# Altium integrated library TPM-SimonK_50A_Library.IntLib: 8 symbols
Pins are listed as number, name and electrical type; pins without a type are passive.

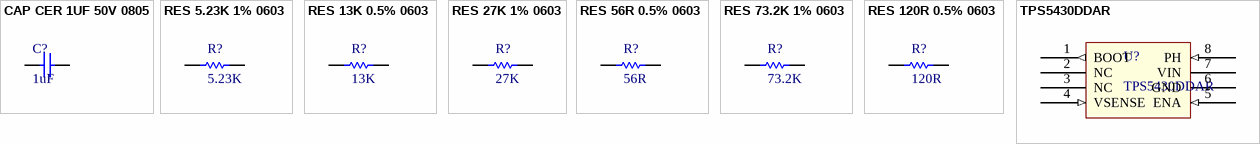
[diagram p0: symbols CAP CER 1UF 50V 0805 to TPS5430DDAR]

## CAP CER 1UF 50V 0805
designator C?, comment 1uF
CAP CER 1UF 50V Y5V 0805; Manufacturer: Yageo; Manufacturer Part Number: CC0805ZKY5V9BB105; Capacitance: 1µF; Tolerance: -20%, +80%; Temperature Coefficient: Y5V (F); Supplier 1: Digi-Key; RoHS: RoHS Compliant; Category: Capacitors; Stock 1: 8830; Pricing 1: 1=0.12, 10=0.081, 25=0.0608, 100=0.0385, 250=0.03244, 500=0.02716, 1000=0.02229 (USD); Packaging: Cut Tape (CT); Part Status: Active; Voltage - Rated: 50V; Operating Temperature: -30°C ~ 85°C; Features: -; Ratings: -; Applications: General Purpose; Failure Rate: -; Mounting Type: Surface Mount, MLCC; Package / Case: 0805 (2012 Metric); Size / Dimension: 0.079" L x 0.049" W (2.00mm x 1.25mm); Height - Seated (Max): -; Thickness (Max): 0.057" (1.45mm); Lead Spacing: -; Lead Style: -; ComponentLink1URL: http://www.yageo.com/documents/recent/UPY-GPHC_Y5V_6.3V-to-50V_6.pdf; ComponentLink1Description: http://www.yageo.com/documents/recent/UPY-GPHC_Y5V_6.3V-to-50V_6.pdf
footprint CAP CER 0805
pins: 1, 2

## RES 5.23K 1% 0603
designator R?, comment 5.23K
RES SMD 5.23K OHM 1% 1/20W 0603; Manufacturer: Yageo; Manufacturer Part Number: RT0201FRE075K23L; Power (Watts): 0.05W, 1/20W; Temperature Coefficient: ±50ppm/°C; Supplier 1: Digi-Key; RoHS: RoHS Compliant; Category: Resistors; Stock 1: 0; Pricing 1: 10000=0.04036 (USD); Packaging: Tape & Reel (TR); Part Status: Active; Resistance (Ohms): 5.23k; Tolerance: ±1%; Composition: Thin Film; Features: Moisture Resistant; Operating Temperature: -55°C ~ 125°C; Package / Case: 0201 (0603 Metric); Supplier Device Package: 0201; Size / Dimension: 0.024" L x 0.012" W (0.60mm x 0.30mm); Height: 0.010" (0.26mm); Number of Terminations: 2; Failure Rate: -; ComponentLink1URL: http://www.yageo.com/documents/recent/PYu-RT_1-to-0.05_RoHS_L_6.pdf; ComponentLink1Description: http://www.yageo.com/documents/recent/PYu-RT_1-to-0.05_RoHS_L_6.pdf
footprint RESISTOR 0603 (RES 5% 0603)
pins: 1, 2

## RES 13K 0.5% 0603
designator R?, comment 13K
Thin Film Resistors - SMD 1/20W 13Kohm 0.5% 25ppm; Manufacturer: Susumu; Manufacturer Part Number: RR0306P-133-D; Power (Watts): 0.05W, 1/20W; Temperature Coefficient: ±25ppm/°C; Supplier 1: Digi-Key; RoHS: RoHS Compliant; Category: Resistors; Stock 1: 0; Pricing 1: 5000=0.02835 (USD); Packaging: Tape & Reel (TR); Part Status: Active; Resistance (Ohms): 13k; Tolerance: ±0.5%; Composition: Thin Film; Features: -; Operating Temperature: -55°C ~ 125°C; Package / Case: 0201 (0603 Metric); Supplier Device Package: -; Size / Dimension: 0.024" L x 0.012" W (0.60mm x 0.30mm); Height: 0.010" (0.26mm); Number of Terminations: 2; Failure Rate: -; ComponentLink1URL: http://www.susumu-usa.com/pdf/RR_Data_Sheet.pdf; ComponentLink1Description: http://www.susumu-usa.com/pdf/RR_Data_Sheet.pdf
footprint RESISTOR 0603 (RES 5% 0603)
pins: 1, 2

## RES 27K 1% 0603
designator R?, comment 27K
RES SMD 27K OHM 1% 1/20W 0603; Manufacturer: Yageo; Manufacturer Part Number: RT0201FRE0727KL; Power (Watts): 0.05W, 1/20W; Temperature Coefficient: ±50ppm/°C; Supplier 1: Digi-Key; RoHS: RoHS Compliant; Category: Resistors; Stock 1: 0; Pricing 1: 10000=0.04036 (USD); Packaging: Tape & Reel (TR); Part Status: Active; Resistance (Ohms): 27k; Tolerance: ±1%; Composition: Thin Film; Features: Moisture Resistant; Operating Temperature: -55°C ~ 125°C; Package / Case: 0201 (0603 Metric); Supplier Device Package: 0201; Size / Dimension: 0.024" L x 0.012" W (0.60mm x 0.30mm); Height: 0.010" (0.26mm); Number of Terminations: 2; Failure Rate: -; ComponentLink1URL: http://www.yageo.com/documents/recent/PYu-RT_1-to-0.05_RoHS_L_6.pdf; ComponentLink1Description: http://www.yageo.com/documents/recent/PYu-RT_1-to-0.05_RoHS_L_6.pdf
footprint RESISTOR 0603 (RES 5% 0603)
pins: 1, 2

## RES 56R 0.5% 0603
designator R?, comment 56R
Thin Film Resistors - SMD 1/20W 56ohm 0.5% 25ppm; Manufacturer: Susumu; Manufacturer Part Number: RR0306P-560-D; Power (Watts): 0.05W, 1/20W; Temperature Coefficient: ±25ppm/°C; Resistance (Ohms): 56; Supplier 1: Digi-Key; RoHS: RoHS Compliant; Category: Resistors; Stock 1: 0; Pricing 1: 5000=0.02835 (USD); Packaging: Tape & Reel (TR); Part Status: Active; Tolerance: ±0.5%; Composition: Thin Film; Features: -; Operating Temperature: -55°C ~ 125°C; Package / Case: 0201 (0603 Metric); Supplier Device Package: -; Size / Dimension: 0.024" L x 0.012" W (0.60mm x 0.30mm); Height: 0.010" (0.26mm); Number of Terminations: 2; Failure Rate: -; ComponentLink1URL: http://www.susumu-usa.com/pdf/RR_Data_Sheet.pdf; ComponentLink1Description: http://www.susumu-usa.com/pdf/RR_Data_Sheet.pdf
footprint RESISTOR 0603 (RES 5% 0603)
pins: 1, 2

## RES 73.2K 1% 0603
designator R?, comment 73.2K
RES SMD 73.2K OHM 1% 1/20W 0603; Manufacturer: Yageo; Manufacturer Part Number: RT0201FRE0773K2L; Power (Watts): 0.05W, 1/20W; Temperature Coefficient: ±50ppm/°C; Supplier 1: Digi-Key; RoHS: RoHS Compliant; Category: Resistors; Stock 1: 0; Pricing 1: 10000=0.04036 (USD); Packaging: Tape & Reel (TR); Part Status: Active; Resistance (Ohms): 73.2k; Tolerance: ±1%; Composition: Thin Film; Features: Moisture Resistant; Operating Temperature: -55°C ~ 125°C; Package / Case: 0201 (0603 Metric); Supplier Device Package: 0201; Size / Dimension: 0.024" L x 0.012" W (0.60mm x 0.30mm); Height: 0.010" (0.26mm); Number of Terminations: 2; Failure Rate: -; ComponentLink1URL: http://www.yageo.com/documents/recent/PYu-RT_1-to-0.05_RoHS_L_6.pdf; ComponentLink1Description: http://www.yageo.com/documents/recent/PYu-RT_1-to-0.05_RoHS_L_6.pdf
footprint RESISTOR 0603 (RES 5% 0603)
pins: 1, 2

## RES 120R 0.5% 0603
designator R?, comment 120R
RES SMD 120 OHM 0.5% 1/20W 0201; Manufacturer: Susumu; Manufacturer Part Number: RR0306P-121-D; Resistance (Ohms): 120; Power (Watts): 0.05W, 1/20W; Temperature Coefficient: ±25ppm/°C; Supplier 1: Digi-Key; RoHS: RoHS Compliant; Category: Resistors; Stock 1: 15494; Pricing 1: 1=0.27, 10=0.229, 25=0.1664, 50=0.1206, 100=0.0894, 250=0.0686, 500=0.05406, 1000=0.03742 (USD); Packaging: Cut Tape (CT); Part Status: Active; Tolerance: ±0.5%; Composition: Thin Film; Features: -; Operating Temperature: -55°C ~ 125°C; Package / Case: 0201 (0603 Metric); Supplier Device Package: -; Size / Dimension: 0.024" L x 0.012" W (0.60mm x 0.30mm); Height: 0.010" (0.26mm); Number of Terminations: 2; Failure Rate: -; ComponentLink1URL: http://www.susumu-usa.com/pdf/RR_Data_Sheet.pdf; ComponentLink1Description: http://www.susumu-usa.com/pdf/RR_Data_Sheet.pdf
footprint RESISTOR 0603 (RES 5% 0603)
pins: 1, 2

## TPS5430DDAR
designator U?
IC REGULATOR BUCK ADJ 3A 8-SO POWERPAD; Manufacturer: Texas Instruments; Description: IC REG BUCK ADJ 3A 8SOPWRPAD; Function: Step-Down; Output Configuration: Positive; Output Type: Adjustable; Number of Outputs: 1; Voltage - Input (Min): 5.5V; Voltage - Input (Max): 36V; Voltage - Output (Min/Fixed): 1.221V; Voltage - Output (Max): 32.04V; Frequency - Switching: 500kHz; Synchronous Rectifier: No; Supplier 1: Digi-Key; Manufacturer Part Number: TPS5430DDAR; RoHS: RoHS Compliant; Category: Integrated Circuits (ICs); Stock 1: 15000; Pricing 1: 2500=2.08125 (USD); Packaging: Tape & Reel (TR); Part Status: Active; Topology: Buck; Current - Output: 3A; Operating Temperature: -40°C ~ 125°C (TJ); Mounting Type: Surface Mount; Package / Case: 8-PowerSOIC (0.154", 3.90mm Width); Supplier Device Package: 8-SO PowerPad; ComponentLink1URL: http://www.ti.com/lit/ds/symlink/tps5431.pdf; ComponentLink1Description: http://www.ti.com/lit/ds/symlink/tps5431.pdf
footprint SOIC8 Thermal (with thermalpad)
pins: 1 BOOT (out), 2 NC, 3 NC, 4 VSENSE (in), 5 ENA (in), 6 GND (power), 7 VIN (power), 8 PH (in)